# Altium footprint library PCB - SWITCH - CANDK JS202011SCQN.PcbLib: 1 footprints
Each footprint in its own frame and in the unit in brackets; x right, y up, seen from the top. Pads: shape width x height; smd on the part's side, far side on the other; paste and mask are expansions set on the pad; w line width, h text height; cw(c..) or ccw(c..) is an arc to the next point about the centre after c.
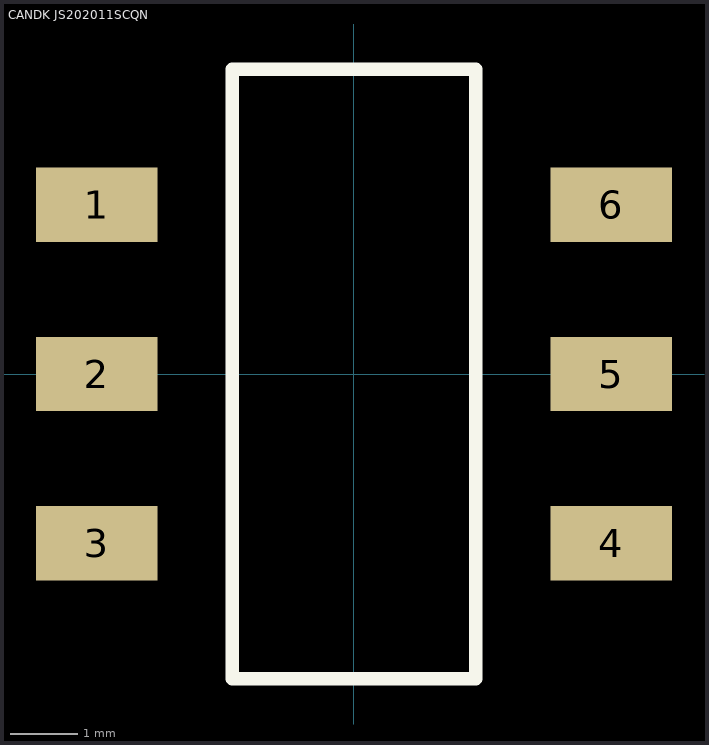
[diagram p0: the footprint, top view; thin cyan lines are the x and y axes]

## CANDK JS202011SCQN [mm]
pads (6):
  rect 1.8x1.1 smd: 1(-3.8,2.5) 2(-3.8,0) 3(-3.8,-2.5) 4(3.8,-2.5) 5(3.8,0) 6(3.8,2.5)
Top Overlay:
  lines w0.2: -1.8,-4.5 -1.8,4.5 1.8,4.5 1.8,-4.5 -1.8,-4.5
3D body "C&K - JS202011SCQN.step": height 5.5, standoff 0, extent -3.75,-4.5 3.75,4.5